# Altium footprint library PcbLib.PcbLib: 285 footprints (part 4 of 18)
Each footprint in its own frame and in the unit in brackets; x right, y up, seen from the top. Pads: shape width x height; smd on the part's side, far side on the other; paste and mask are expansions set on the pad; w line width, h text height; cw(c..) or ccw(c..) is an arc to the next point about the centre after c.
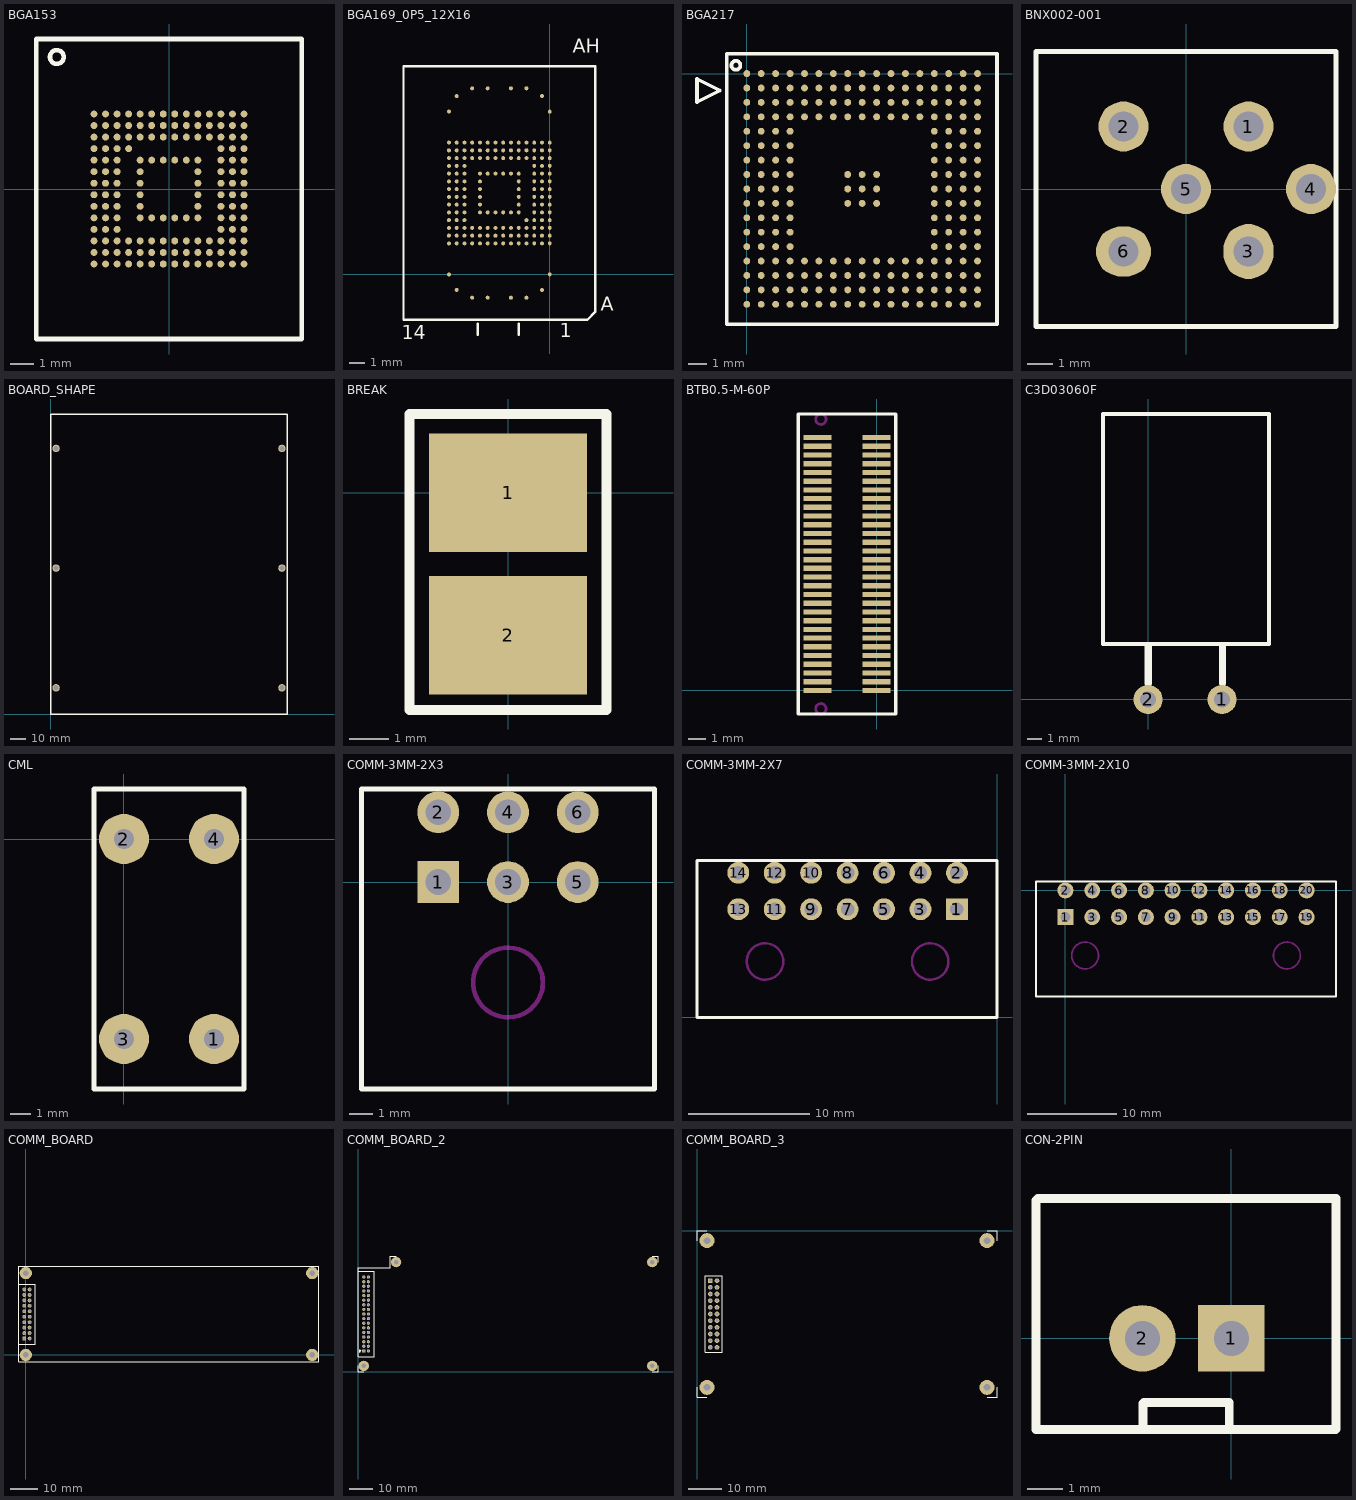
[diagram p3: the footprints below, top view; thin cyan lines are the x and y axes]

## BGA153 [mm]
pads (153):
  round 0.3 smd: A1(-3.25,3.25) A2(-2.75,3.25) A3(-2.25,3.25) A4(-1.75,3.25) A5(-1.25,3.25) A6(-0.75,3.25) A7(-0.25,3.25) A8(0.25,3.25) A9(0.75,3.25) A10(1.25,3.25) A11(1.75,3.25) A12(2.25,3.25) A13(2.75,3.25) A14(3.25,3.25) B1(-3.25,2.75) B2(-2.75,2.75) B3(-2.25,2.75) B4(-1.75,2.75) B5(-1.25,2.75) B6(-0.75,2.75) B7(-0.25,2.75) B8(0.25,2.75) B9(0.75,2.75) B10(1.25,2.75) B11(1.75,2.75) B12(2.25,2.75) B13(2.75,2.75) B14(3.25,2.75) C1(-3.25,2.25) C2(-2.75,2.25) C3(-2.25,2.25) C4(-1.75,2.25) C5(-1.25,2.25) C6(-0.75,2.25) C7(-0.25,2.25) C8(0.25,2.25) C9(0.75,2.25) C10(1.25,2.25) C11(1.75,2.25) C12(2.25,2.25) C13(2.75,2.25) C14(3.25,2.25) D1(-3.25,1.75) D2(-2.75,1.75) D3(-2.25,1.75) D4(-1.75,1.75) D12(2.25,1.75) D13(2.75,1.75) D14(3.25,1.75) E1(-3.25,1.25) E2(-2.75,1.25) E3(-2.25,1.25) E5(-1.25,1.25) E6(-0.75,1.25) E7(-0.25,1.25) E8(0.25,1.25) E9(0.75,1.25) E10(1.25,1.25) E12(2.25,1.25) E13(2.75,1.25) E14(3.25,1.25) F1(-3.25,0.75) F2(-2.75,0.75) F3(-2.25,0.75) F5(-1.25,0.75) F10(1.25,0.75) F12(2.25,0.75) F13(2.75,0.75) F14(3.25,0.75) G1(-3.25,0.25) G2(-2.75,0.25) G3(-2.25,0.25) G5(-1.25,0.25) G10(1.25,0.25) G12(2.25,0.25) G13(2.75,0.25) G14(3.25,0.25) H1(-3.25,-0.25) H2(-2.75,-0.25) H3(-2.25,-0.25) H5(-1.25,-0.25) H10(1.25,-0.25) H12(2.25,-0.25) H13(2.75,-0.25) H14(3.25,-0.25) J1(-3.25,-0.75) J2(-2.75,-0.75) J3(-2.25,-0.75) J5(-1.25,-0.75) J10(1.25,-0.75) J12(2.25,-0.75) J13(2.75,-0.75) J14(3.25,-0.75) K1(-3.25,-1.25) K2(-2.75,-1.25) K3(-2.25,-1.25) K5(-1.25,-1.25) K6(-0.75,-1.25) K7(-0.25,-1.25) K8(0.25,-1.25) K9(0.75,-1.25) K10(1.25,-1.25) K12(2.25,-1.25) K13(2.75,-1.25) K14(3.25,-1.25) L1(-3.25,-1.75) L2(-2.75,-1.75) L3(-2.25,-1.75) L12(2.25,-1.75) L13(2.75,-1.75) L14(3.25,-1.75) M1(-3.25,-2.25) M2(-2.75,-2.25) M3(-2.25,-2.25) M4(-1.75,-2.25) M5(-1.25,-2.25) M6(-0.75,-2.25) M7(-0.25,-2.25) M8(0.25,-2.25) M9(0.75,-2.25) M10(1.25,-2.25) M11(1.75,-2.25) M12(2.25,-2.25) M13(2.75,-2.25) M14(3.25,-2.25) N1(-3.25,-2.75) N2(-2.75,-2.75) N3(-2.25,-2.75) N4(-1.75,-2.75) N5(-1.25,-2.75) N6(-0.75,-2.75) N7(-0.25,-2.75) N8(0.25,-2.75) N9(0.75,-2.75) N10(1.25,-2.75) N11(1.75,-2.75) N12(2.25,-2.75) N13(2.75,-2.75) N14(3.25,-2.75) P1(-3.25,-3.25) P2(-2.75,-3.25) P3(-2.25,-3.25) P4(-1.75,-3.25) P5(-1.25,-3.25) P6(-0.75,-3.25) P7(-0.25,-3.25) P8(0.25,-3.25) P9(0.75,-3.25) P10(1.25,-3.25) P11(1.75,-3.25) P12(2.25,-3.25) P13(2.75,-3.25) P14(3.25,-3.25)
Top Overlay:
  circle w0.2: c-4.86,5.72 r0.3
  lines w0.2: 5.75,2.27 5.75,6.5 3.03,6.5 0,6.5 -5.75,6.5 -5.75,4.05 -5.75,0 -5.75,-6.5 0,-6.5 4.35,-6.5 5.75,-6.5 5.75,0 5.75,2.48

## BGA169_0P5_12X16 [mil]
pads (169):
  round 10 smd: A4(-59.05,-59.06) A6(-98.42,-59.06) A9(-157.48,-59.06) A11(-196.85,-59.06) AA1(0,334.64) AA2(-19.68,334.64) AA3(-39.37,334.64) AA4(-59.05,334.64) AA5(-78.74,334.64) AA6(-98.42,334.64) AA7(-118.11,334.64) AA8(-137.79,334.64) AA9(-157.48,334.64) AA10(-177.16,334.64) AA11(-196.85,334.64) AA12(-216.53,334.64) AA13(-236.22,334.64) AA14(-255.9,334.64) AE1(0,413.38) AE14(-255.9,413.38) AG2(-19.68,452.75) AG13(-236.22,452.75) AH4(-59.05,472.44) AH6(-98.42,472.44) AH9(-157.48,472.44) AH11(-196.85,472.44) B2(-19.68,-39.37) B13(-236.22,-39.37) D1(0,0) D14(-255.9,0) H1(0,78.74) H2(-19.68,78.74) H3(-39.37,78.74) H4(-59.05,78.74) H5(-78.74,78.74) H6(-98.42,78.74) H7(-118.11,78.74) H8(-137.79,78.74) H9(-157.48,78.74) H10(-177.16,78.74) H11(-196.85,78.74) H12(-216.53,78.74) H13(-236.22,78.74) H14(-255.9,78.74) J1(0,98.42) J2(-19.68,98.42) J3(-39.37,98.42) J4(-59.05,98.42) J5(-78.74,98.42) J6(-98.42,98.42) J7(-118.11,98.42) J8(-137.79,98.42) J9(-157.48,98.42) J10(-177.16,98.42) J11(-196.85,98.42) J12(-216.53,98.42) J13(-236.22,98.42) J14(-255.9,98.42) K1(0,118.11) K2(-19.68,118.11) K3(-39.37,118.11) K4(-59.05,118.11) K5(-78.74,118.11) K6(-98.42,118.11) K7(-118.11,118.11) K8(-137.79,118.11) K9(-157.48,118.11) K10(-177.16,118.11) K11(-196.85,118.11) K12(-216.53,118.11) K13(-236.22,118.11) K14(-255.9,118.11) L1(0,137.79) L2(-19.68,137.79) L3(-39.37,137.79) L4(-59.05,137.79) L12(-216.53,137.79) L13(-236.22,137.79) L14(-255.9,137.79) M1(0,157.48) M2(-19.68,157.48) M3(-39.37,157.48) M5(-78.74,157.48) M6(-98.42,157.48) M7(-118.11,157.48) M8(-137.79,157.48) M9(-157.48,157.48) M10(-177.16,157.48) M12(-216.53,157.48) M13(-236.22,157.48) M14(-255.9,157.48) N1(0,177.16) N2(-19.68,177.16) N3(-39.37,177.16) N5(-78.74,177.16) N10(-177.16,177.16) N12(-216.53,177.16) N13(-236.22,177.16) N14(-255.9,177.16) P1(0,196.85) P2(-19.68,196.85) P3(-39.37,196.85) P5(-78.74,196.85) P10(-177.16,196.85) P12(-216.53,196.85) P13(-236.22,196.85) P14(-255.9,196.85) R1(0,216.53) R2(-19.68,216.53) R3(-39.37,216.53) R5(-78.74,216.53) R10(-177.16,216.53) R12(-216.53,216.53) R13(-236.22,216.53) R14(-255.9,216.53) T1(0,236.22) T2(-19.68,236.22) T3(-39.37,236.22) T5(-78.74,236.22) T10(-177.16,236.22) T12(-216.53,236.22) T13(-236.22,236.22) T14(-255.9,236.22) U1(0,255.9) U2(-19.68,255.9) U3(-39.37,255.9) U5(-78.74,255.9) U6(-98.42,255.9) U7(-118.11,255.9) U8(-137.79,255.9) U9(-157.48,255.9) U10(-177.16,255.9) U12(-216.53,255.9) U13(-236.22,255.9) U14(-255.9,255.9) V1(0,275.59) V2(-19.68,275.59) V3(-39.37,275.59) V12(-216.53,275.59) V13(-236.22,275.59) V14(-255.9,275.59) W1(0,295.27) W2(-19.68,295.27) W3(-39.37,295.27) W4(-59.05,295.27) W5(-78.74,295.27) W6(-98.42,295.27) W7(-118.11,295.27) W8(-137.79,295.27) W9(-157.48,295.27) W10(-177.16,295.27) W11(-196.85,295.27) W12(-216.53,295.27) W13(-236.22,295.27) W14(-255.9,295.27) Y1(0,314.96) Y2(-19.68,314.96) Y3(-39.37,314.96) Y4(-59.05,314.96) Y5(-78.74,314.96) Y6(-98.42,314.96) Y7(-118.11,314.96) Y8(-137.79,314.96) Y9(-157.48,314.96) Y10(-177.16,314.96) Y11(-196.85,314.96) Y12(-216.53,314.96) Y13(-236.22,314.96) Y14(-255.9,314.96)
Top Overlay:
  lines w5.98: -182.44,-153.47 -182.44,-124.61 ; -79.05,-153.66 -79.05,-124.81 ; -371.18,-115.28 95.59,-115.28 115.28,-95.59 115.28,528.66 -371.18,528.66 -371.18,-115.28
  text "14" at -375.95,-163.98 h35
  text "1" at 25.55,-158.98 h35
  text "A" at 129.05,-92.31 h35
  text "AH" at 58.05,562.69 h35

## BGA217 [mil] "SUP0115A"
pads (217):
  round 15 smd: A1(0,0) A2(31.5,0) A3(62.99,0) A4(94.49,0) A5(125.98,0) A6(157.48,0) A7(188.98,0) A8(220.47,0) A9(251.97,0) A10(283.46,0) A11(314.96,0) A12(346.46,0) A13(377.95,0) A14(409.45,0) A15(440.94,0) A16(472.44,0) A17(503.94,0) B1(0,-31.5) B2(31.5,-31.5) B3(62.99,-31.5) B4(94.49,-31.5) B5(125.98,-31.5) B6(157.48,-31.5) B7(188.98,-31.5) B8(220.47,-31.5) B9(251.97,-31.5) B10(283.46,-31.5) B11(314.96,-31.5) B12(346.46,-31.5) B13(377.95,-31.5) B14(409.45,-31.5) B15(440.94,-31.5) B16(472.44,-31.5) B17(503.94,-31.5) C1(0,-62.99) C2(31.5,-62.99) C3(62.99,-62.99) C4(94.49,-62.99) C5(125.98,-62.99) C6(157.48,-62.99) C7(188.98,-62.99) C8(220.47,-62.99) C9(251.97,-62.99) C10(283.46,-62.99) C11(314.96,-62.99) C12(346.46,-62.99) C13(377.95,-62.99) C14(409.45,-62.99) C15(440.94,-62.99) C16(472.44,-62.99) C17(503.94,-62.99) D1(0,-94.49) D2(31.5,-94.49) D3(62.99,-94.49) D4(94.49,-94.49) D5(125.98,-94.49) D6(157.48,-94.49) D7(188.98,-94.49) D8(220.47,-94.49) D9(251.97,-94.49) D10(283.46,-94.49) D11(314.96,-94.49) D12(346.46,-94.49) D13(377.95,-94.49) D14(409.45,-94.49) D15(440.94,-94.49) D16(472.44,-94.49) D17(503.94,-94.49) E1(0,-125.98) E2(31.5,-125.98) E3(62.99,-125.98) E4(94.49,-125.98) E14(409.45,-125.98) E15(440.94,-125.98) E16(472.44,-125.98) E17(503.94,-125.98) F1(0,-157.48) F2(31.5,-157.48) F3(62.99,-157.48) F4(94.49,-157.48) F14(409.45,-157.48) F15(440.94,-157.48) F16(472.44,-157.48) F17(503.94,-157.48) G1(0,-188.98) G2(31.5,-188.98) G3(62.99,-188.98) G4(94.49,-188.98) G14(409.45,-188.98) G15(440.94,-188.98) G16(472.44,-188.98) G17(503.94,-188.98) H1(0,-220.47) H2(31.5,-220.47) H3(62.99,-220.47) H4(94.49,-220.47) H8(220.47,-220.47) H9(251.97,-220.47) H10(283.46,-220.47) H14(409.45,-220.47) H15(440.94,-220.47) H16(472.44,-220.47) H17(503.94,-220.47) J1(0,-251.97) J2(31.5,-251.97) J3(62.99,-251.97) J4(94.49,-251.97) J8(220.47,-251.97) J9(251.97,-251.97) J10(283.46,-251.97) J14(409.45,-251.97) J15(440.94,-251.97) J16(472.44,-251.97) J17(503.94,-251.97) K1(0,-283.46) K2(31.5,-283.46) K3(62.99,-283.46) K4(94.49,-283.46) K8(220.47,-283.46) K9(251.97,-283.46) K10(283.46,-283.46) K14(409.45,-283.46) K15(440.94,-283.46) K16(472.44,-283.46) K17(503.94,-283.46) L1(0,-314.96) L2(31.5,-314.96) L3(62.99,-314.96) L4(94.49,-314.96) L14(409.45,-314.96) L15(440.94,-314.96) L16(472.44,-314.96) L17(503.94,-314.96) M1(0,-346.46) M2(31.5,-346.46) M3(62.99,-346.46) M4(94.49,-346.46) M14(409.45,-346.46) M15(440.94,-346.46) M16(472.44,-346.46) M17(503.94,-346.46) N1(0,-377.95) N2(31.5,-377.95) N3(62.99,-377.95) N4(94.49,-377.95) N14(409.45,-377.95) N15(440.94,-377.95) N16(472.44,-377.95) N17(503.94,-377.95) P1(0,-409.45) P2(31.5,-409.45) P3(62.99,-409.45) P4(94.49,-409.45) P5(125.98,-409.45) P6(157.48,-409.45) P7(188.98,-409.45) P8(220.47,-409.45) P9(251.97,-409.45) P10(283.46,-409.45) P11(314.96,-409.45) P12(346.46,-409.45) P13(377.95,-409.45) P14(409.45,-409.45) P15(440.94,-409.45) P16(472.44,-409.45) P17(503.94,-409.45) R1(0,-440.94) R2(31.5,-440.94) R3(62.99,-440.94) R4(94.49,-440.94) R5(125.98,-440.94) R6(157.48,-440.94) R7(188.98,-440.94) R8(220.47,-440.94) R9(251.97,-440.94) R10(283.46,-440.94) R11(314.96,-440.94) R12(346.46,-440.94) R13(377.95,-440.94) R14(409.45,-440.94) R15(440.94,-440.94) R16(472.44,-440.94) R17(503.94,-440.94) T1(0,-472.44) T2(31.5,-472.44) T3(62.99,-472.44) T4(94.49,-472.44) T5(125.98,-472.44) T6(157.48,-472.44) T7(188.98,-472.44) T8(220.47,-472.44) T9(251.97,-472.44) T10(283.46,-472.44) T11(314.96,-472.44) T12(346.46,-472.44) T13(377.95,-472.44) T14(409.45,-472.44) T15(440.94,-472.44) T16(472.44,-472.44) T17(503.94,-472.44) U1(0,-503.94) U2(31.5,-503.94) U3(62.99,-503.94) U4(94.49,-503.94) U5(125.98,-503.94) U6(157.48,-503.94) U7(188.98,-503.94) U8(220.47,-503.94) U9(251.97,-503.94) U10(283.46,-503.94) U11(314.96,-503.94) U12(346.46,-503.94) U13(377.95,-503.94) U14(409.45,-503.94) U15(440.94,-503.94) U16(472.44,-503.94) U17(503.94,-503.94)
Top Overlay:
  lines w8: -108.78,-61.97 -108.78,-11.97 -58.78,-36.97 -108.78,-61.97 ; -44.09,-547.38 546.46,-547.38 546.46,43.17 -44.09,43.17 -44.09,-547.38 ; -23.78,8.19 cw(c-23.78,18.03) -23.78,27.87 cw(c-23.78,18.03) -23.78,8.19

## BNX002-001 [mm]
pads (6):
  round 2 hole 1.2: 1(2.5,2.5) 2(-2.5,2.5) 4(5,0) 5(0,0)
  oval 2x2.2 hole 1.2: 3(2.5,-2.5)
  oval 2.2x2 hole 1.2: 6(-2.5,-2.5)
Top Overlay:
  lines w0.2: -6,-5.5 -6,5.5 6,5.5 6,-5.5 -6,-5.5

## BOARD_SHAPE [mm]
pads (6):
  round 5 hole 3.5: ""(3.5,17.5) ""(3.5,97.5) ""(3.5,177.5) ""(154.5,17.5) ""(154.5,97.5) ""(154.5,177.5)
Top Overlay:
  lines w1: 0,0 0,200.5 158,200.5 158,0 0,0

## BREAK [mm]
pads (2):
  rect 4x3 smd: 1(0,0) 2(0,-3.6)
Top Overlay:
  lines w0.254: -2.5,-5.5 -2.5,2 2.5,2 2.5,-5.5 -2.5,-5.5

## BTB0.5-M-60P [mm]
pads (60):
  rect 1.6x0.3 smd: 1(0,14.5) 2(-3.4,14.5) 3(0,14) 4(-3.4,14) 5(0,13.5) 6(-3.4,13.5) 7(0,13) 8(-3.4,13) 9(0,12.5) 10(-3.4,12.5) 11(0,12) 12(-3.4,12) 13(0,11.5) 14(-3.4,11.5) 15(0,11) 16(-3.4,11) 17(0,10.5) 18(-3.4,10.5) 19(0,10) 20(-3.4,10) 21(0,9.5) 22(-3.4,9.5) 23(0,9) 24(-3.4,9) 25(0,8.5) 26(-3.4,8.5) 27(0,8) 28(-3.4,8) 29(0,7.5) 30(-3.4,7.5) 31(0,7) 32(-3.4,7) 33(0,6.5) 34(-3.4,6.5) 35(0,6) 36(-3.4,6) 37(0,5.5) 38(-3.4,5.5) 39(0,5) 40(-3.4,5) 41(0,4.5) 42(-3.4,4.5) 43(0,4) 44(-3.4,4) 45(0,3.5) 46(-3.4,3.5) 47(0,3) 48(-3.4,3) 49(0,2.5) 50(-3.4,2.5) 51(0,2) 52(-3.4,2) 53(0,1.5) 54(-3.4,1.5) 55(0,1) 56(-3.4,1) 57(0,0.5) 58(-3.4,0.5) 59(0,0) 60(-3.4,0)
Top Overlay:
  lines w0.2: -4.5,-1.35 -4.5,13.65 -4.5,15.85 1.1,15.85 1.1,-1.35 -4.5,-1.35
Keep-Out Layer:
  circle w0.15: c-3.2,-1.05 r0.3
  circle w0.15: c-3.2,15.55 r0.3

## C3D03060F [mm]
pads (2):
  round 2 hole 1.1: 1(5.08,0) 2(0,0)
Top Overlay:
  lines w0.254: -3.1,3.8 -3.1,19.6 -2.9,19.6 8.1,19.6 8.3,19.6 8.3,3.8 -3.1,3.8
  lines w0.5: 0,1.1 0,3.6 ; 5.1,1.1 5.1,3.6

## CML [mm]
pads (4):
  round 2.5 hole 1: 1(4.5,-10) 2(0,0) 3(0,-10) 4(4.5,0)
Top Overlay:
  lines w0.254: -1.5,-12.5 6,-12.5 6,0 6,2.5 -1.5,2.5 -1.5,1.6 -1.5,-0.6 -1.5,-12.5

## COMM-3MM-2X3 [mm]
pads (6):
  rect 1.8x1.8 hole 1.1: 1(-3,0)
  round 1.8 hole 1.1: 2(-3,3) 3(0,0) 4(0,3) 5(3,0) 6(3,3)
Top Overlay:
  lines w0.2: -6.3,-8.9 6.3,-8.9 6.3,4 -6.3,4 -6.3,-8.9
Keep-Out Layer:
  circle w0.2: c0,-4.32 r1.5

## COMM-3MM-2X7 [mm]
pads (14):
  rect 1.8x1.8 hole 1.1: 1(-3.3,8.9)
  round 1.8 hole 1.1: 2(-3.3,11.9) 3(-6.3,8.9) 4(-6.3,11.9) 5(-9.3,8.9) 6(-9.3,11.9) 7(-12.3,8.9) 8(-12.3,11.9) 9(-15.3,8.9) 10(-15.3,11.9) 11(-18.3,8.9) 12(-18.3,11.9) 13(-21.3,8.9) 14(-21.3,11.9)
Top Overlay:
  lines w0.254: -24.7,0 0,0 0,12.9 -24.7,12.9 -24.7,0
Keep-Out Layer:
  circle w0.2: c-19.1,4.6 r1.5
  circle w0.2: c-5.5,4.6 r1.5

## COMM-3MM-2X10 [mm]
pads (20):
  rect 1.8x1.8 hole 1.1: 1(0,-3)
  round 1.8 hole 1.1: 2(0,0) 3(3,-3) 4(3,0) 5(6,-3) 6(6,0) 7(9,-3) 8(9,0) 9(12,-3) 10(12,0) 11(15,-3) 12(15,0) 13(18,-3) 14(18,0) 15(21,-3) 16(21,0) 17(24,-3) 18(24,0) 19(27,-3) 20(27,0)
Top Overlay:
  lines w0.2: -3.3,-11.9 30.3,-11.9 30.3,1 -3.3,1 -3.3,-11.9
Keep-Out Layer:
  circle w0.2: c24.8,-7.3 r1.5
  circle w0.2: c2.2,-7.3 r1.5

## COMM_BOARD [mm]
pads (24):
  rect 1.4x1.4 hole 0.9: 1(-0.6,6)
  round 1.4 hole 0.9: 2(1.4,6) 3(-0.6,8) 4(1.4,8) 5(-0.6,10) 6(1.4,10) 7(-0.6,12) 8(1.4,12) 9(-0.6,14) 10(1.4,14) 11(-0.6,16) 12(1.4,16) 13(-0.6,18) 14(1.4,18) 15(-0.6,20) 16(1.4,20) 17(-0.6,22) 18(1.4,22) 19(-0.6,24) 20(1.4,24)
  round 4.5 hole 2: ""(0,0) ""(0,30) ""(105,0) ""(105,30)
Top Overlay:
  lines w0.2: -2.5,4 -0.6,4 3.4,4 3.4,21.2 ; -2.5,26 3.4,26 3.4,20.4 ; -2.5,-2.5 107.5,-2.5 107.5,32.5 -2.5,32.5 -2.5,-2.5 ; 1.4,26 1.4,26

## COMM_BOARD_2 [mm]
pads (38):
  rect 1.4x1.4 hole 0.9: 1(2.5,9)
  round 1.4 hole 0.9: 2(4.5,9) 3(2.5,11) 4(4.5,11) 5(2.5,13) 6(4.5,13) 7(2.5,15) 8(4.5,15) 9(2.5,17) 10(4.5,17) 11(2.5,19) 12(4.5,19) 13(2.5,21) 14(4.5,21) 15(2.5,23) 16(4.5,23) 17(2.5,25) 18(4.5,25) 19(2.5,27) 20(4.5,27) 21(2.5,29) 22(4.5,29) 23(2.5,31) 24(4.5,31) 25(2.5,33) 26(4.5,33) 27(2.5,35) 28(4.5,35) 29(2.5,37) 30(4.5,37) 31(2.5,39) 32(4.5,39) 33(2.5,41) 34(4.5,41)
  round 4.5 hole 2: ""(2.5,2.5) ""(16.5,47.5) ""(127.5,2.5) ""(127.5,47.5)
Top Overlay:
  lines w0.254: 0,2.5 0,0 2.5,0 ; 16.5,50 14,50 14,47.5 14,45 0,45 0,43.5 ; 127.5,0 130,0 130,2.5 ; 127.5,50 130,50 130,47.5 ; 0,43.5 7,43.5 7,6.5 0,6.5 0,43.5
  lines w0.4: 0.7,8.5 1.2,9 0.7,9.5 0.7,8.5

## COMM_BOARD_3 [mm]
pads (26):
  rect 1.4x1.4 hole 0.9: 1(4,-15)
  round 1.4 hole 0.9: 2(6,-15) 3(4,-17) 4(6,-17) 5(4,-19) 6(6,-19) 7(4,-21) 8(6,-21) 9(4,-23) 10(6,-23) 11(4,-25) 12(6,-25) 13(4,-27) 14(6,-27) 15(4,-29) 16(6,-29) 17(4,-31) 18(6,-31) 19(4,-33) 20(6,-33) 21(4,-35) 22(6,-35)
  round 4.5 hole 2: ""(3,-47) ""(3,-3) ""(87,-47) ""(87,-3)
Top Overlay:
  lines w0.254: 0,-47 0,-50 3,-50 ; 0,-3 0,0 3,0 ; 87,-50 90,-50 90,-47 ; 87,0 90,0 90,-3 ; 2.5,-36.5 2.5,-13.5 7.5,-13.5 7.5,-36.5 2.5,-36.5

## CON-2PIN [mm]
pads (2):
  rect 1.9x1.9 hole 1: 1(0,0)
  round 1.9 hole 1: 2(-2.54,0)
Top Overlay:
  lines w0.254: -5.58,3.94 -5.58,-2.6 2.98,-2.6 2.99,-2.59 2.99,0 2.99,3.99 -5.53,3.99 ; -2.52,-2.6 -2.52,-1.86 ; -2.49,-1.83 -0.06,-1.83 -0.06,-2.6